# EAGLE library part KA2206BN (library Audio-Power-amlifier V.2.0)
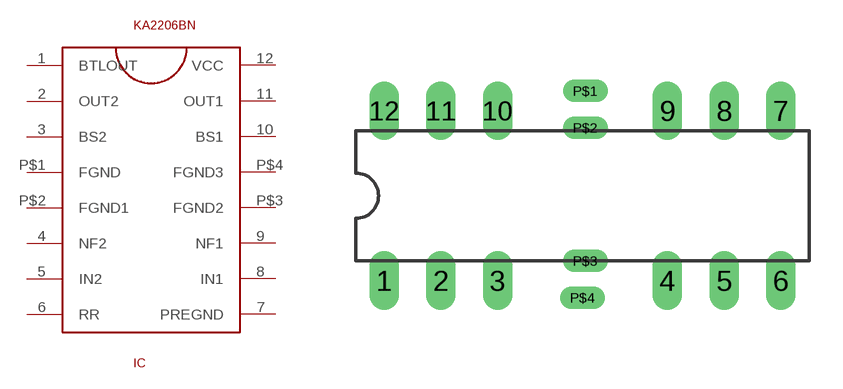
[diagram p25: symbol with the pads of 12-DIPH-300; footprint 12-DIPH-300]

Designator prefix IC

## KA2206BN  [12-DIPH-300]
1  BTLOUT  out
2  OUT2  out
3  BS2
4  NF2
5  IN2  in
6  RR
7  PREGND  pwr
8  IN1  in
9  NF1
10  BS1
11  OUT1  out
12  VCC  pwr
P$1  FGND  pwr
P$2  FGND1  pwr
P$3  FGND2  pwr
P$4  FGND3  pwr

## Footprint 12-DIPH-300 (pad centres in mm)
Dual In Line Package
drill 0.813 long: 1 -8.89,-3.81; 2 -6.35,-3.81; 3 -3.81,-3.81; 4 3.81,-3.81; 5 6.35,-3.81; 6 8.89,-3.81; 7 8.89,3.81; 8 6.35,3.81; 9 3.81,3.81; 10 -3.81,3.81; 11 -6.35,3.81; 12 -8.89,3.81
drill 0.003 pad 1.016 long: P$1 0.127,4.699; P$2 0.127,3.048; P$3 0.127,-2.921; P$4 0,-4.572